# Altium footprint library PcbLib1.PcbLib: 21 footprints (part 1 of 2)
Each footprint in its own frame and in the unit in brackets; x right, y up, seen from the top. Pads: shape width x height; smd on the part's side, far side on the other; paste and mask are expansions set on the pad; w line width, h text height; cw(c..) or ccw(c..) is an arc to the next point about the centre after c.
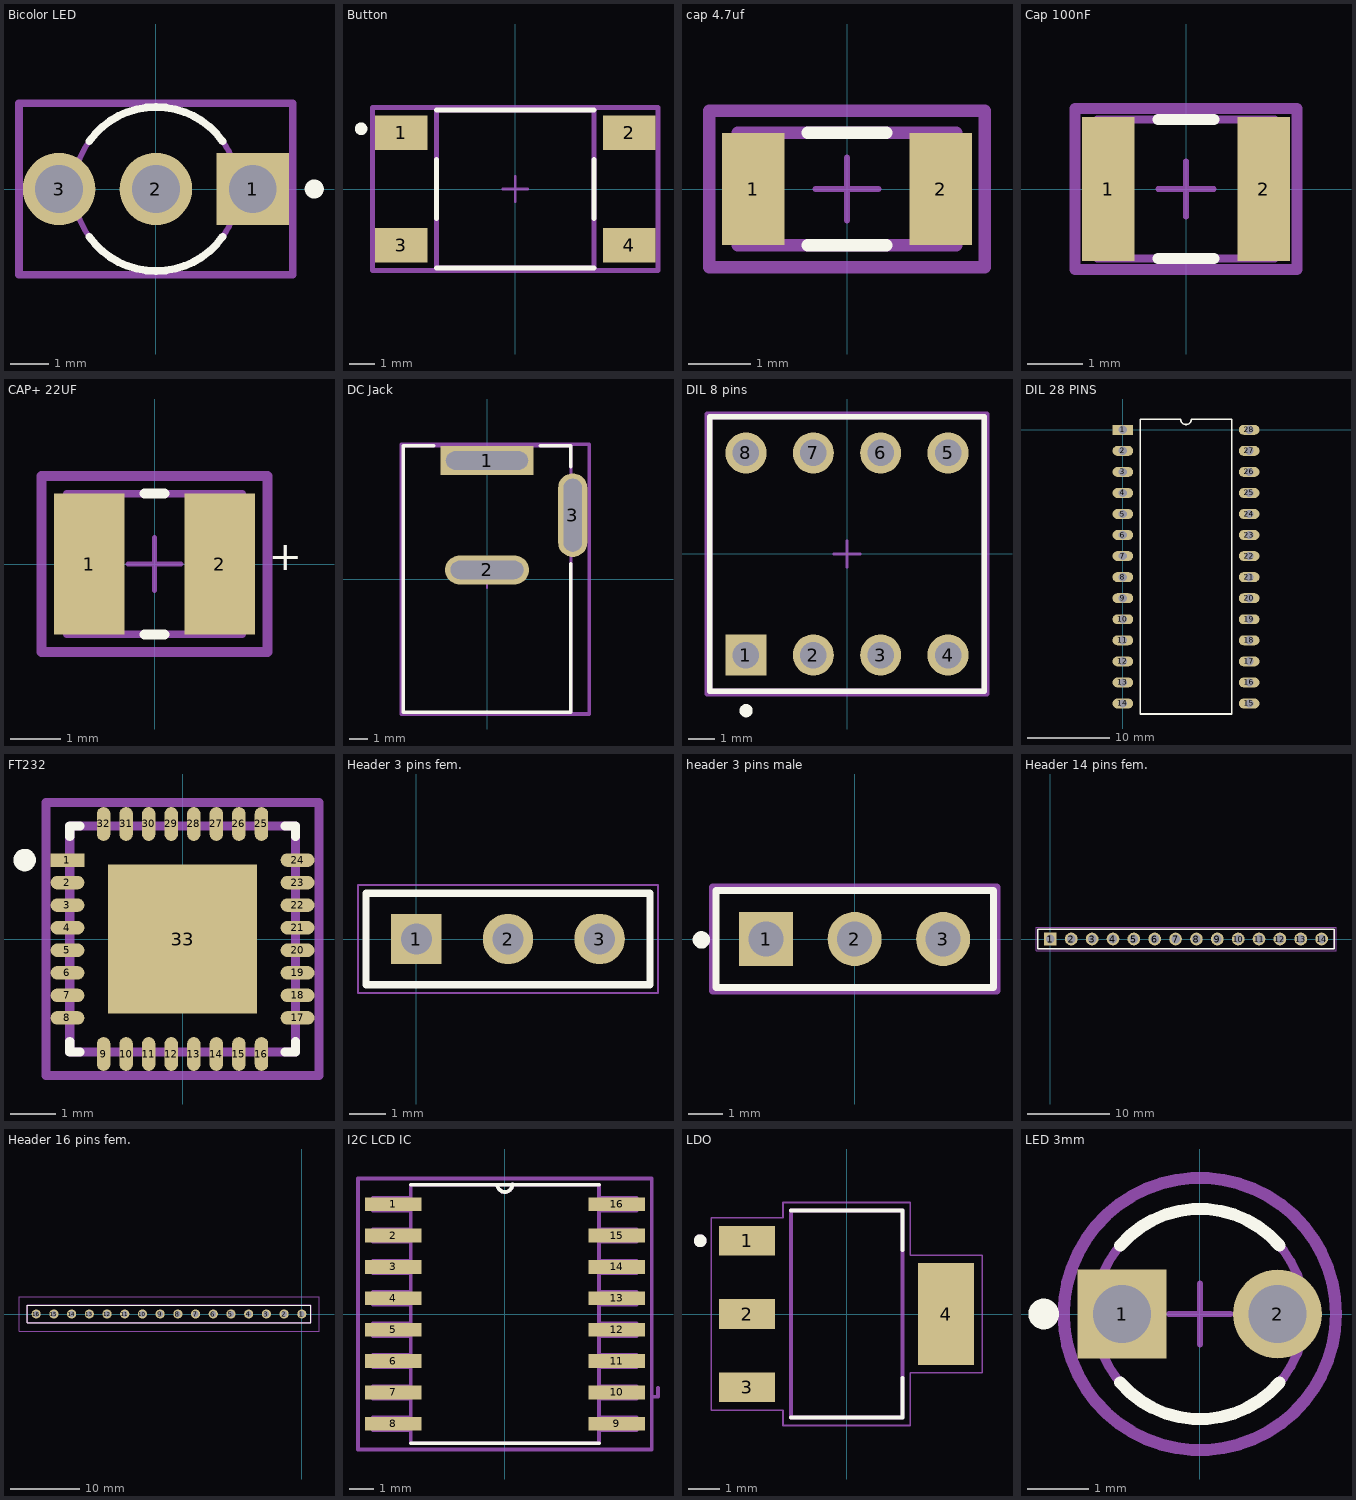
[diagram p0: the footprints below, top view; thin cyan lines are the x and y axes]

## Bicolor LED [mm]
pads (3):
  rect 1.9x1.9 hole 1.25 paste-1000 mask+0: 1(2.54,0)
  round 1.9 hole 1.25 paste-1000 mask+0: 2(0,0) 3(-2.54,0)
Top Overlay:
  circle w0.25: c4.15,0 r0.125
  lines w0.2: -1.75,-1.25 ccw(c0,-0.001) 1.75,-1.25 ; -1.75,1.25 cw(c0,0.001) 1.75,1.25
Mechanical 10:
  lines w0.2: -3.59,-2.25 3.59,-2.25 3.59,2.25 -3.59,2.25 -3.59,-2.25
  text ".Designator" at 0,0 h1
Mechanical 12:
  circle w0.15: c0,0 r2.15
Mechanical 15:
  lines w0.1: -0.5,0 0.5,0 ; 0,-0.5 0,0.5
  lines w0.2: -3.59,-2.25 3.59,-2.25 3.59,2.25 -3.59,2.25 -3.59,-2.25
3D body "Diode_LITE_ON_LTL1BEKVJNN_eec.STEP": height 0.25, standoff 0, extent -3.59,-2.25 3.59,2.25

## Button [mm]
pads (4):
  rect 2.1x1.38 smd paste+0 mask+0: 1(-4.55,2.24) 2(4.55,2.24) 3(-4.55,-2.24) 4(4.55,-2.24)
Top Overlay:
  circle w0.25: c-6.15,2.404 r0.125
  lines w0.2: -3.15,-3.15 3.15,-3.15 ; -3.15,-1.175 -3.15,1.175 ; -3.15,3.15 3.15,3.15 ; 3.15,-1.175 3.15,1.175
Mechanical 10:
  lines w0.2: -5.7,-3.25 -5.7,3.25 5.7,3.25 5.7,-3.25 -5.7,-3.25
  text ".Designator" at 0,0 h1
Mechanical 12:
  lines w0.2: -3.15,-3.15 -3.15,3.15 3.15,3.15 3.15,-3.15 -3.15,-3.15
Mechanical 15:
  lines w0.1: -0.5,0 0.5,0 ; 0,-0.5 0,0.5
  lines w0.2: -5.7,-3.25 -5.7,3.25 5.7,3.25 5.7,-3.25 -5.7,-3.25

## cap 4.7uf [mm]
pads (2):
  rect 1x1.8 smd paste+0 mask+0: 1(-1.5,0) 2(1.5,0)
Top Overlay:
  lines w0.2: -0.625,-0.9 0.625,-0.9 ; -0.625,0.9 0.625,0.9
Mechanical 10:
  lines w0.2: -2.2,-1.25 -2.2,1.25 2.2,1.25 2.2,-1.25 -2.2,-1.25
  text ".Designator" at 0,0 h1
Mechanical 12:
  lines w0.2: -1.75,-0.9 -1.75,0.9 1.75,0.9 1.75,-0.9 -1.75,-0.9
Mechanical 15:
  lines w0.1: -0.5,0 0.5,0 ; 0,-0.5 0,0.5
  lines w0.2: -2.2,-1.25 -2.2,1.25 2.2,1.25 2.2,-1.25 -2.2,-1.25
3D body "Cap_Yageo_CC1206KKX7R6BB475_eec.STEP": height 0.25, standoff 0, extent -2.2,-1.25 2.2,1.25

## Cap 100nF [mm]
pads (2):
  rect 0.95x2.6 smd paste+0 mask+0: 1(-1.4,0) 2(1.4,0)
Top Overlay:
  lines w0.2: -0.5,-1.25 0.5,-1.25 ; -0.5,1.25 0.5,1.25
Mechanical 10:
  lines w0.2: -2,-1.45 2,-1.45 2,1.45 -2,1.45 -2,-1.45
  text ".Designator" at 0,0 h1
Mechanical 12:
  lines w0.15: -1.6,-1.25 1.6,-1.25 1.6,1.25 -1.6,1.25 -1.6,-1.25
Mechanical 15:
  lines w0.1: -0.5,0 0.5,0 ; 0,-0.5 0,0.5
  lines w0.2: -2,-1.45 2,-1.45 2,1.45 -2,1.45 -2,-1.45
3D body "Cap_Kemet_C1210C104K1RACTU_eec.STEP": height 0.25, standoff 0, extent -2,-1.45 2,1.45

## CAP+ 22UF [mm]
pads (2):
  rect 1.4x2.8 smd paste+0 mask+0: 1(-1.3,0) 2(1.3,0)
Top Overlay:
  lines w0.2: -0.2,-1.4 0.2,-1.4 ; -0.2,1.4 0.2,1.4
  text "+" at 2.275,-0.325 h1
Mechanical 10:
  lines w0.2: -2.25,-1.75 -2.25,1.75 2.25,1.75 2.25,-1.75 -2.25,-1.75
  text ".Designator" at 0,0 h1
Mechanical 12:
  lines w0.15: -1.75,-1.4 -1.75,1.4 1.75,1.4 1.75,-1.4 -1.75,-1.4
Mechanical 15:
  lines w0.1: -0.525,0 0.525,0 ; 0,-0.525 0,0.525
  lines w0.2: -2.25,-1.75 -2.25,1.75 2.25,1.75 2.25,-1.75 -2.25,-1.75
3D body "Cap_AVX_TAJB226M010RNJ_eec.STEP": height 0.25, standoff 0, extent -2.25,-1.75 2.25,1.75

## DC Jack [mm]
pads (3):
  rect 5.1x1.6 hole 1 slot 4.5 at 0 deg paste-1000 mask+0: 1(0,6.5)
  oval 4.6x1.6 hole 1 slot 4 at 0 deg paste-1000 mask+0: 2(0,0.5)
  oval 1.6x4.6 hole 4 slot 1 at 0 deg paste-1000 mask+0: 3(4.7,3.5)
Top Overlay:
  lines w0.2: -2.925,7.3 -4.6,7.3 -4.6,-7.3 4.6,-7.3 4.6,0.825 ; 2.925,7.3 4.6,7.3 4.6,6.175
Mechanical 10:
  lines w0.2: -4.7,-7.4 5.6,-7.4 5.6,7.4 -4.7,7.4 -4.7,-7.4
  text ".Designator" at 0.45,0 h1
Mechanical 12:
  lines w0.15: -4.6,-7.3 4.6,-7.3 4.6,7.3 -4.6,7.3 -4.6,-7.3
Mechanical 15:
  lines w0.1: -0.5,0 0.5,0 ; 0,-0.5 0,0.5
  lines w0.2: -4.7,-7.4 5.6,-7.4 5.6,7.4 -4.7,7.4 -4.7,-7.4
3D body "Conn_CUI_PJ-002A_eec.STEP": height 0.25, standoff 0, extent -4.7,-7.4 5.6,7.4

## DIL 8 pins [mm]
pads (8):
  rect 1.55x1.55 hole 1 paste-1000 mask+0: 1(-3.81,-3.81)
  round 1.55 hole 1 paste-1000 mask+0: 2(-1.27,-3.81) 3(1.27,-3.81) 4(3.81,-3.81) 5(3.81,3.81) 6(1.27,3.81) 7(-1.27,3.81) 8(-3.81,3.81)
Top Overlay:
  circle w0.25: c-3.805,-5.91 r0.125
  lines w0.2: -5.18,-5.18 5.18,-5.18 5.18,5.18 -5.18,5.18 -5.18,-5.18
Mechanical 10:
  lines w0.2: -5.28,-5.28 5.28,-5.28 5.28,5.28 -5.28,5.28 -5.28,-5.28
  text ".Designator" at 0,0 h1
Mechanical 12:
  lines w0.2: -5.18,-5.18 5.18,-5.18 5.18,5.18 -5.18,5.18 -5.18,-5.18
Mechanical 15:
  lines w0.1: -0.5,0 0.5,0 ; 0,-0.5 0,0.5
  lines w0.2: -5.28,-5.28 5.28,-5.28 5.28,5.28 -5.28,5.28 -5.28,-5.28
3D body "Conn_Assmann_Electronics_A08-LC-TT_eec.STEP": height 0.25, standoff 0, extent -5.28,-5.28 5.28,5.28

## DIL 28 PINS [mm]
pads (28):
  rect 2.5x1.2 hole 1: 1(0,0)
  oval 2.5x1.2 hole 1: 2(0,-2.54) 3(0,-5.08) 4(0,-7.62) 5(0,-10.16) 6(0,-12.7) 7(0,-15.24) 8(0,-17.78) 9(0,-20.32) 10(0,-22.86) 11(0,-25.4) 12(0,-27.94) 13(0,-30.48) 14(0,-33.02) 15(15.24,-33.02) 16(15.24,-30.48) 17(15.24,-27.94) 18(15.24,-25.4) 19(15.24,-22.86) 20(15.24,-20.32) 21(15.24,-17.78) 22(15.24,-15.24) 23(15.24,-12.7) 24(15.24,-10.16) 25(15.24,-7.62) 26(15.24,-5.08) 27(15.24,-2.54) 28(15.24,0)
Top Overlay:
  lines w0.2: 2.085,-34.29 2.085,1.27 6.985,1.27 ccw(c7.62,1.27) 8.255,1.27 13.155,1.27 13.155,-34.29 2.085,-34.29

## FT232 [mm]
pads (33):
  rect 0.75x0.3 smd paste+0 mask+0: 1(-2.55,1.75)
  rrect100% 0.75x0.3 smd paste+0 mask+0: 2(-2.55,1.25) 3(-2.55,0.75) 4(-2.55,0.25) 5(-2.55,-0.25) 6(-2.55,-0.75) 7(-2.55,-1.25) 8(-2.55,-1.75) 17(2.55,-1.75) 18(2.55,-1.25) 19(2.55,-0.75) 20(2.55,-0.25) 21(2.55,0.25) 22(2.55,0.75) 23(2.55,1.25) 24(2.55,1.75)
  rrect100% 0.3x0.75 smd paste+0 mask+0: 9(-1.75,-2.55) 10(-1.25,-2.55) 11(-0.75,-2.55) 12(-0.25,-2.55) 13(0.25,-2.55) 14(0.75,-2.55) 15(1.25,-2.55) 16(1.75,-2.55) 25(1.75,2.55) 26(1.25,2.55) 27(0.75,2.55) 28(0.25,2.55) 29(-0.25,2.55) 30(-0.75,2.55) 31(-1.25,2.55) 32(-1.75,2.55)
  rect 3.3x3.3 smd paste+0 mask+0: 33(0,0)
Top Overlay:
  circle w0.25: c-3.5,1.75 r0.125
  lines w0.2: -2.5,-2.275 -2.5,-2.5 -2.275,-2.5 ; -2.5,2.275 -2.5,2.5 -2.275,2.5 ; 2.275,-2.5 2.5,-2.5 2.5,-2.275 ; 2.275,2.5 2.5,2.5 2.5,2.275
Mechanical 10:
  lines w0.2: -3.025,-3.025 3.025,-3.025 3.025,3.025 -3.025,3.025 -3.025,-3.025
  text ".Designator" at 0,0.188 h1
Mechanical 12:
  lines w0.2: -2.5,-2.5 2.5,-2.5 2.5,2.5 -2.5,2.5 -2.5,-2.5
Mechanical 15:
  lines w0.1: -0.5,0 0.5,0 ; 0,-0.5 0,0.5
  lines w0.2: -3.025,-3.025 3.025,-3.025 3.025,3.025 -3.025,3.025 -3.025,-3.025
3D body "IC_FTDI_FT232RQ-REEL_eec.STEP": height 0.25, standoff 0, extent -3.025,-3.025 3.025,3.025

## Header 3 pins fem. [mm] "Low Profile Socket Strip, 1x3 Pins, Vertical, 2.54mm Pitch, Female"
height 4.57
pads (3):
  rect 1.4x1.4 hole 0.86: 1(0,0)
  round 1.4 hole 0.86: 2(2.54,0) 3(5.08,0)
Top Overlay:
  lines w0.2: -1.395,-1.27 6.475,-1.27 6.475,1.27 -1.395,1.27 -1.395,-1.27
Mechanical 13:
  lines w0.1: -1.395,-1.27 -1.395,1.27 6.475,1.27 6.475,-1.27 -1.395,-1.27
Mechanical 15:
  lines w0.05: -1.62,-1.495 6.7,-1.495 6.7,1.495 -1.62,1.495 -1.62,-1.495
3D body "SLW-103-01-X-S.step": height 4.57, standoff -2.92, extent -1.27,-1.27 6.35,1.27

## header 3 pins male [mm]
pads (3):
  rect 1.55x1.55 hole 1 paste-1000 mask+0: 1(-2.54,0)
  round 1.55 hole 1 paste-1000 mask+0: 2(0,0) 3(2.54,0)
Top Overlay:
  circle w0.25: c-4.4,-0.025 r0.125
  lines w0.2: -3.985,-1.395 3.985,-1.395 3.985,1.395 -3.985,1.395 -3.985,-1.395
Mechanical 10:
  lines w0.2: -4.085,-1.495 4.085,-1.495 4.085,1.495 -4.085,1.495 -4.085,-1.495
  text ".Designator" at 0,0 h1
Mechanical 12:
  lines w0.15: -3.985,-1.395 3.985,-1.395 3.985,1.395 -3.985,1.395 -3.985,-1.395
Mechanical 15:
  lines w0.1: -0.5,0 0.5,0 ; 0,-0.5 0,0.5
  lines w0.2: -4.085,-1.495 4.085,-1.495 4.085,1.495 -4.085,1.495 -4.085,-1.495
3D body "Conn_Harwin_M20-9990346_eec.STEP": height 0.25, standoff 0, extent -4.085,-1.495 4.085,1.495

## Header 14 pins fem. [mm] "SQ Post Socket, 1x14 Pins, Vertical, 2.54mm Pitch, Female"
height 8.51
pads (14):
  rect 1.55x1.55 hole 1.04: 1(0,0)
  round 1.55 hole 1.04: 2(2.54,0) 3(5.08,0) 4(7.62,0) 5(10.16,0) 6(12.7,0) 7(15.24,0) 8(17.78,0) 9(20.32,0) 10(22.86,0) 11(25.4,0) 12(27.94,0) 13(30.48,0) 14(33.02,0)
Top Overlay:
  lines w0.2: -1.525,-1.205 34.545,-1.205 34.545,1.205 -1.525,1.205 -1.525,-1.205
Mechanical 13:
  lines w0.1: -1.525,-1.205 34.545,-1.205 34.545,1.205 -1.525,1.205 -1.525,-1.205
Mechanical 15:
  lines w0.05: -1.75,-1.43 34.77,-1.43 34.77,1.43 -1.75,1.43 -1.75,-1.43
3D body "SSW-114-01-X-S.step": height 8.51, standoff -2.64, extent -1.524,-1.206 34.544,1.207

## Header 16 pins fem. [mm]
pads (16):
  round 1.31 hole 0.81: 1(0,0) 2(-2.54,0) 3(-5.08,0) 4(-7.62,0) 5(-10.16,0) 6(-12.7,0) 7(-15.24,0) 8(-17.78,0) 9(-20.32,0) 10(-22.86,0) 11(-25.4,0) 12(-27.94,0) 13(-30.48,0) 14(-33.02,0) 15(-35.56,0) 16(-38.1,0)
Top Overlay:
  lines w0.1: -39.37,-1.27 1.27,-1.27 1.27,1.27 -39.37,1.27 -39.37,-1.27
Mechanical 13:
  lines w0.2: -39.37,-1.27 1.27,-1.27 1.27,1.27 -39.37,1.27 -39.37,-1.27
Mechanical 15:
  lines w0.05: -40.57,-2.47 2.47,-2.47 2.47,2.47 -40.57,2.47 -40.57,-2.47

## I2C LCD IC [mil]
pads (16):
  rect 90x22 smd: 1(-178,175) 2(-178,125) 3(-178,75) 4(-178,25) 5(-178,-25) 6(-178,-75) 7(-178,-125) 8(-178,-175) 9(178,-175) 10(178,-125) 11(178,-75) 12(178,-25) 13(178,25) 14(178,75) 15(178,125) 16(178,175)
Top Overlay:
  lines w6: -150,-206 150,-206 ; -150,206 -12,206 150,206 ; -12,206.08 ccw(c0,206.5) 12,206.92
Mechanical 13:
  lines w6: -12,206.08 ccw(c0,206.5) 12,206.92 ; 234,-118 234,-132 244,-132 244,-118 ; -210,-185 -210,-165 -150,-165 -150,-185 -210,-185 ; -210,-135 -210,-115 -150,-115 -150,-135 -210,-135 ; -210,-85 -210,-65 -150,-65 -150,-85 -210,-85 ; -210,-35 -210,-15 -150,-15 -150,-35 -210,-35 ; -210,15 -210,35 -150,35 -150,15 -210,15 ; -210,65 -210,85 -150,85 -150,65 -210,65 ; -210,115 -210,135 -150,135 -150,115 -210,115 ; -210,165 -210,185 -150,185 -150,165 -210,165 ; -150,-206 150,-206 150,206 -12,206 -150,206 -150,-206 ; 150,-185 150,-165 210,-165 210,-185 150,-185 ; 150,-135 150,-115 210,-115 210,-135 150,-135 ; 150,-85 150,-65 210,-65 210,-85 150,-85 ; 150,-35 150,-15 210,-15 210,-35 150,-35 ; 150,15 150,35 210,35 210,15 150,15 ; 150,65 150,85 210,85 210,65 150,65 ; 150,115 150,135 210,135 210,115 150,115 ; 150,165 150,185 210,185 210,165 150,165
Mechanical 15:
  lines w6: -234,-216 234,-216 234,216 -234,216 -234,-216

## LDO [mm]
pads (4):
  rect 1.76x0.94 smd: 1(-3.125,2.3) 2(-3.125,0) 3(-3.125,-2.3)
  rect 1.76x3.19 smd: 4(3.125,0)
Top Overlay:
  circle w0.2: c-4.6,2.3 r0.1
  lines w0.127: -1.75,-3.25 1.75,-3.25 1.75,-2.01 ; -1.75,3.25 1.75,3.25 1.75,2.01
Mechanical 13:
  circle w0.2: c-4.6,2.3 r0.1
  lines w0.127: -1.75,-3.25 -1.75,3.25 1.75,3.25 1.75,-3.25 -1.75,-3.25
Mechanical 15:
  lines w0.05: -4.255,-3.02 -4.255,3.02 -2,3.02 -2,3.5 2,3.5 2,1.845 4.255,1.845 4.255,-1.845 2,-1.845 2,-3.5 -2,-3.5 -2,-3.02 -4.255,-3.02

## LED 3mm [mm]
pads (2):
  rect 1.45x1.45 hole 0.95 paste-1000 mask+0: 1(-1.27,0)
  round 1.45 hole 0.95 paste-1000 mask+0: 2(1.27,0)
Top Overlay:
  circle w0.25: c-2.55,0 r0.125
  lines w0.2: -1.3,-1.12 ccw(c0,-0.001) 1.3,-1.12 ; -1.3,1.12 cw(c0,0.001) 1.3,1.12
Mechanical 10:
  text ".Designator" at 0,0 h1
Mechanical 12:
  circle w0.15: c0,0 r1.715
Mechanical 15:
  lines w0.1: -0.5,0 0.5,0 ; 0,-0.5 0,0.5
  lines w0.2: -2.223,0 ccw(c0,0) 2.223,0 ccw(c0,0) -2.223,0
3D body "Diode_Broadcom_HLMP-1719_eec.STEP": height 0.25, standoff 0, extent -2.223,-2.223 2.223,2.223